# Altium footprint library footprint.PcbLib: 56 footprints (part 2 of 4)
Each footprint in its own frame and in the unit in brackets; x right, y up, seen from the top. Pads: shape width x height; smd on the part's side, far side on the other; paste and mask are expansions set on the pad; w line width, h text height; cw(c..) or ccw(c..) is an arc to the next point about the centre after c.
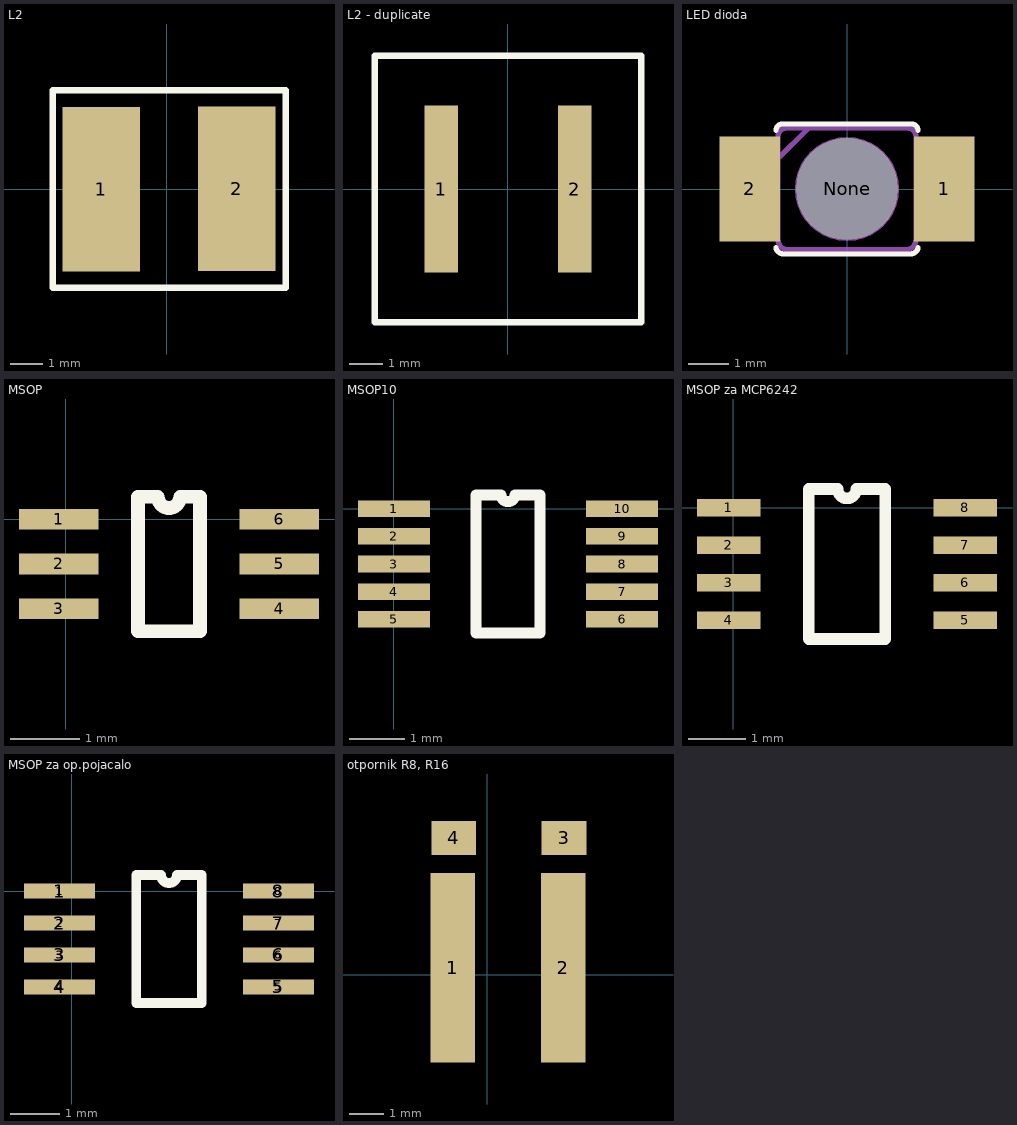
[diagram p1: the footprints below, top view; thin cyan lines are the x and y axes]

## L2 [mm]
pads (2):
  rect 2.4x5.1 smd: 1(-2.032,0) 2(2.159,0.025)
Top Overlay:
  lines w0.2: -3.531,-3.048 3.683,-3.048 3.683,3.073 -3.531,3.073 -3.531,-0.683 -3.531,-3.048

## L2 - duplicate [mm]
pads (2):
  rect 1x5 smd: 1(-2,0) 2(2,0)
Top Overlay:
  lines w0.2: -4,-4 4,-4 4,4 -4,4 -4,0 -4,-4

## LED dioda [mm]
pads (3):
  rect 1.5x2.6 smd: 1(2.397,0.001) 2(-2.403,0.001)
  round 2.5 hole 2.5 unplated: None(-0.003,0.001)
Top Overlay:
  lines w0.127: -1.753,-1.449 ccw(c-1.578,-1.424) -1.553,-1.599 1.547,-1.599 ccw(c1.572,-1.424) 1.747,-1.449 ; -1.753,1.451 cw(c-1.603,1.451) -1.603,1.601 1.597,1.601 cw(c1.597,1.451) 1.747,1.451
Mechanical 1:
  circle w0.127: c-0.003,0.001 r1.221
  lines w0.127: -1.703,-1.149 -1.703,-1.249 ccw(c-1.453,-1.249) -1.453,-1.499 1.447,-1.499 ccw(c1.447,-1.249) 1.697,-1.249 1.697,-1.199 ; -1.703,-1.149 -2.653,-1.149 -2.653,1.151 -1.703,1.151 ; -1.703,-1.149 -1.703,-0.649 ; -1.703,-0.649 -1.703,0.651 ; -1.703,-0.649 -1.753,-0.649 cw(c-1.753,-0.549) -1.853,-0.549 -1.853,0.501 cw(c-1.703,0.501) -1.703,0.651 ; -1.703,0.651 -1.703,0.751 ; -1.703,0.751 -1.703,1.151 ; -1.703,0.751 -0.953,1.501 ; -1.703,1.151 -1.703,1.301 cw(c-1.503,1.301) -1.503,1.501 -0.953,1.501 ; -0.953,1.501 1.497,1.501 cw(c1.497,1.301) 1.697,1.301 1.697,1.201 ; 1.697,-1.199 1.697,-1.149 2.697,-1.149 2.697,1.151 1.697,1.151 1.697,1.201 ; 1.697,-1.199 1.697,-0.649 ; 1.697,-0.649 ccw(c1.697,-0.499) 1.847,-0.499 1.847,0.551 ccw(c1.747,0.551) 1.747,0.651 1.697,0.651 ; 1.697,-0.649 1.697,0.651 ; 1.697,0.651 1.697,1.201 ; -0.803,0.001 ccw(c-0.003,0.001) -0.003,-0.799 ccw(c-0.003,0.001) 0.797,0.001 ccw(c-0.003,0.001) -0.003,0.801 ccw(c-0.003,0.001) -0.803,0.001

## MSOP [mm]
pads (6):
  rect 1.155x0.3 smd mask+0: 1(-0.1,0) 2(-0.1,-0.65) 3(-0.1,-1.3) 4(3.1,-1.3) 5(3.1,-0.65) 6(3.1,0)
Top Overlay:
  lines w0.2: 1.05,-1.625 1.05,0.325 1.338,0.325 ccw(c1.5,0.325) 1.662,0.325 1.95,0.325 1.95,-1.625 1.05,-1.625

## MSOP8 za gain buffer [mm]

## MSOP10 [mm]
pads (10):
  rect 1.3x0.3 smd: 1(0,0) 2(0,-0.5) 3(0,-1) 4(0,-1.5) 5(0,-2) 6(4.118,-2) 7(4.118,-1.5) 8(4.118,-1) 9(4.118,-0.5) 10(4.118,0)
Top Overlay:
  lines w0.2: 1.485,-2.25 1.485,0.25 1.934,0.25 ccw(c2.059,0.25) 2.184,0.25 2.633,0.25 2.633,-2.25 1.485,-2.25

## MSOP za MCP6242 [mm]
pads (8):
  rect 1.1x0.3 smd mask+0: 1(-0.075,0) 2(-0.075,-0.65) 3(-0.075,-1.3) 4(-0.075,-1.95) 5(4.025,-1.95) 6(4.025,-1.3) 7(4.025,-0.65) 8(4.025,0)
Top Overlay:
  lines w0.2: 1.31,-2.275 1.31,0.325 1.813,0.325 ccw(c1.975,0.325) 2.137,0.325 2.64,0.325 2.64,-2.275 1.31,-2.275

## MSOP za op.pojacalo [mm]
pads (24):
  rect 1.45x0.3 smd mask+0: 1(-0.25,0) 2(-0.25,-0.65) 3(-0.25,-1.3) 4(-0.25,-1.95) 6(4.2,-1.3) 7(4.2,-0.65) 8(4.2,0)
  rect 1.65x0.5 on Top Solder mask+0: 1(-0.25,0) 2(-0.25,-0.65) 3(-0.25,-1.3) 4(-0.25,-1.95) 5(4.2,-1.95) 6(4.2,-1.3) 7(4.2,-0.65) 8(4.2,0)
  rect 1.45x0.3 on Top Paste mask+0: 1(-0.25,0) 2(-0.25,-0.65) 3(-0.25,-1.3) 4(-0.25,-1.95) 6(4.2,-1.3) 7(4.2,-0.65) 8(4.2,0)
  rect 1.45x0.3 smd paste+0 mask+0: 5(4.2,-1.95)
  rect 1.45x0.3 on Top Paste paste+0 mask+0: 5(4.2,-1.95)
Top Overlay:
  lines w0.2: 1.31,-2.275 1.31,0.325 1.813,0.325 ccw(c1.975,0.325) 2.137,0.325 2.64,0.325 2.64,-2.275 1.31,-2.275

## otpornik R8, R16 [mm]
pads (4):
  rect 1.3x5.5 smd: 1(-1,0.2) 2(2.2,0.2)
  rect 1.3x0.98 smd: 3(2.226,3.966) 4(-0.974,3.966)

## PCBComponent_1 [mm]

## PCBComponent_1 - duplicate [mm]

## PCBComponent_1 - duplicate1 [mm]

## PCBComponent_1 - duplicate2 [mm]

## PCBComponent_1 - duplicate3 [mm]

## PCBComponent_1 - duplicate4 [mm]

## PCBComponent_1 - duplicate5 [mm]